# EAGLE library part VCNL4010 (library ic-Vishay)
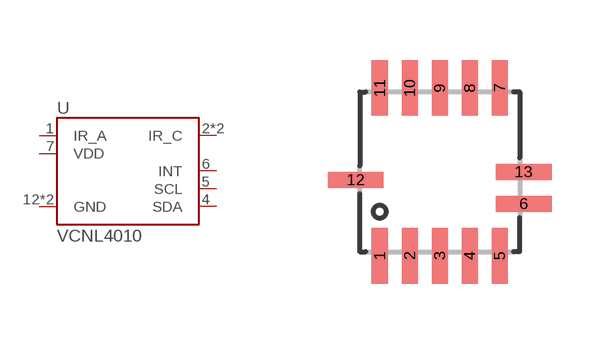
[diagram p0: symbol with the pads of VCNL4010; footprint VCNL4010]

Designator prefix U

## VCNL4010  [VCNL4010]
1  IR_A
2  IR_C
3  IR_C
4  SDA
5  SCL
6  INT
7  VDD
12  GND
13  GND

## Footprint VCNL4010 (pad centres in mm)
smd 0.4 x 1.4: 1 -1.5,-2.1; 2 -0.75,-2.1; 3 0,-2.1; 4 0.75,-2.1; 5 1.5,-2.1; 7 1.5,2.1; 8 0.75,2.1; 9 0,2.1; 10 -0.75,2.1; 11 -1.5,2.1
smd 1.4 x 0.4: 6 2.1,-0.8; 12 -2.1,-0.2; 13 2.1,0